# EAGLE library part CS4954-CQZ (library Cirrus_Logic_By_element14_Batch_1)
NTSC/PAL Digital Video Encoder
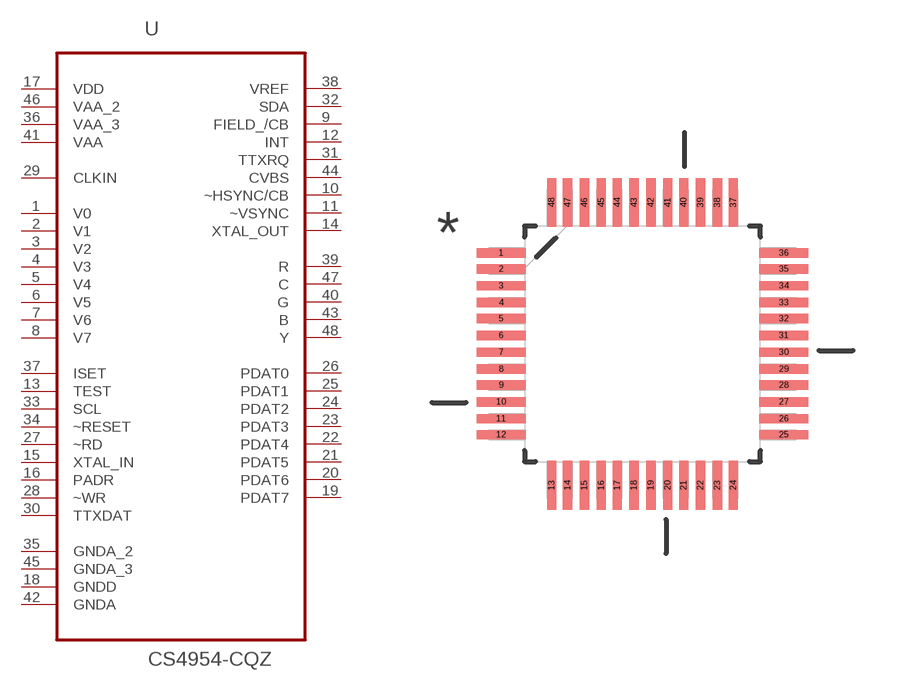
[diagram p7: symbol with the pads of QFP50P900X900X160-48N; footprint QFP50P900X900X160-48N]

Designator prefix U

## CS4954-CQZ (DESCRIPTION: NTSC/PAL Digital Video Encoder; MPN: CS4954-CQZ; OC_FARNELL: 1859798; OC_NEWARK: 43K6776; PACKAGE: TQFP-48; SUPPLIER: CIRRUS LOGIC)  [QFP50P900X900X160-48N]
1  V0  in
2  V1  in
3  V2  in
4  V3  in
5  V4  in
6  V5  in
7  V6  in
8  V7  in
9  FIELD_/CB  out
10  ~HSYNC/CB
11  ~VSYNC
12  INT  out
13  TEST  in
14  XTAL_OUT  out
15  XTAL_IN  in
16  PADR  in
17  VDD  pwr
18  GNDD  pas
19  PDAT7
20  PDAT6
21  PDAT5
22  PDAT4
23  PDAT3
24  PDAT2
25  PDAT1
26  PDAT0
27  ~RD  in
28  ~WR  in
29  CLKIN  in
30  TTXDAT  in
31  TTXRQ  out
32  SDA
33  SCL  in
34  ~RESET  in
35  GNDA_2  pas
36  VAA_3  pwr
37  ISET  in
38  VREF
39  R  out
40  G  out
41  VAA  pwr
42  GNDA  pas
43  B  out
44  CVBS  out
45  GNDA_3  pas
46  VAA_2  pwr
47  C  out
48  Y  out

## Footprint QFP50P900X900X160-48N (pad centres in mm)
smd 1.473 x 0.279: 1 -4.267,2.743; 2 -4.267,2.261; 3 -4.267,1.753; 4 -4.267,1.245; 5 -4.267,0.762; 6 -4.267,0.254; 7 -4.267,-0.254; 8 -4.267,-0.762; 9 -4.267,-1.245; 10 -4.267,-1.753; 11 -4.267,-2.261; 12 -4.267,-2.743; 25 4.267,-2.743; 26 4.267,-2.261; 27 4.267,-1.753; 28 4.267,-1.245; 29 4.267,-0.762; 30 4.267,-0.254; 31 4.267,0.254; 32 4.267,0.762; 33 4.267,1.245; 34 4.267,1.753; 35 4.267,2.261; 36 4.267,2.743
smd 0.279 x 1.473: 13 -2.743,-4.267; 14 -2.261,-4.267; 15 -1.753,-4.267; 16 -1.245,-4.267; 17 -0.762,-4.267; 18 -0.254,-4.267; 19 0.254,-4.267; 20 0.762,-4.267; 21 1.245,-4.267; 22 1.753,-4.267; 23 2.261,-4.267; 24 2.743,-4.267; 37 2.743,4.267; 38 2.261,4.267; 39 1.753,4.267; 40 1.245,4.267; 41 0.762,4.267; 42 0.254,4.267; 43 -0.254,4.267; 44 -0.762,4.267; 45 -1.245,4.267; 46 -1.753,4.267; 47 -2.261,4.267; 48 -2.743,4.267